# Altium footprint library MainPcblib.PcbLib: 316 footprints (part 13 of 20)
Each footprint in its own frame and in the unit in brackets; x right, y up, seen from the top. Pads: shape width x height; smd on the part's side, far side on the other; paste and mask are expansions set on the pad; w line width, h text height; cw(c..) or ccw(c..) is an arc to the next point about the centre after c.
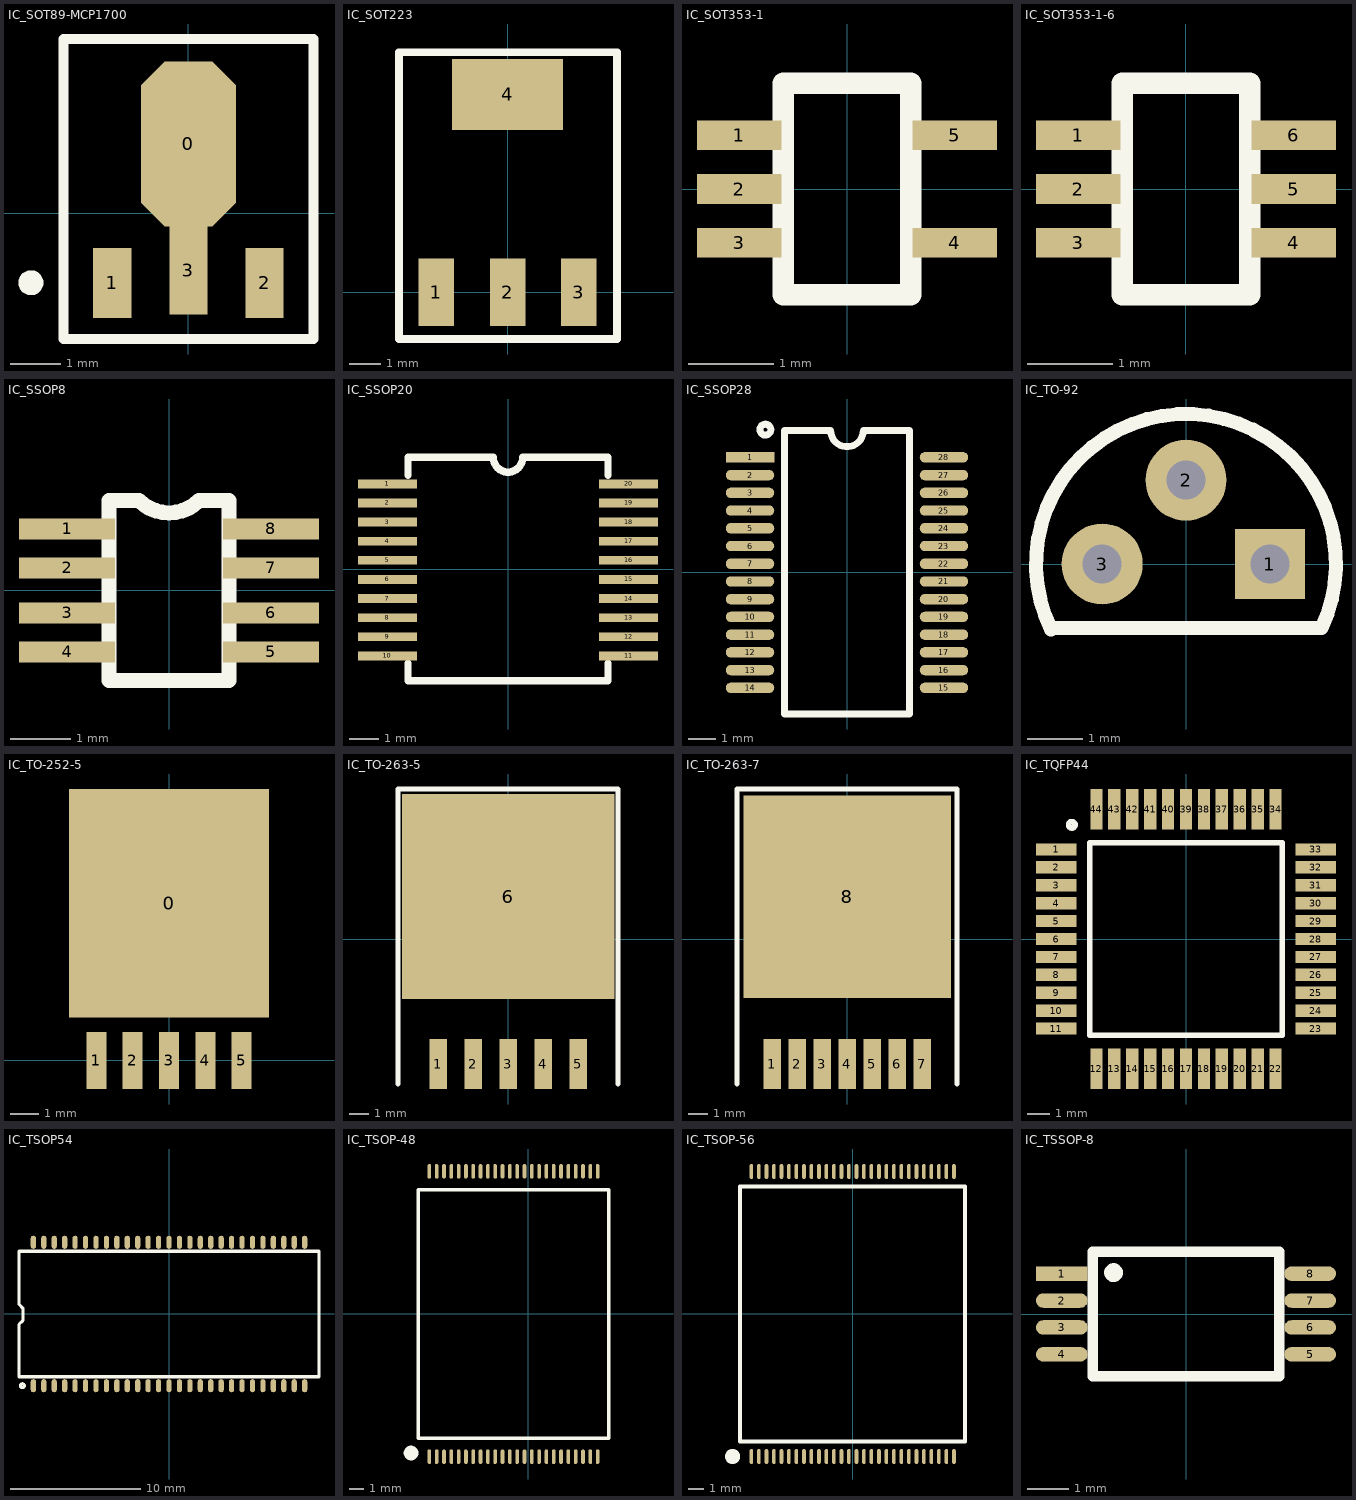
[diagram p12: the footprints below, top view; thin cyan lines are the x and y axes]

## IC_SOT89-MCP1700 [mil] "SOT-89 for MCP1700"
pads (4):
  oct 74.8x129.92 smd: 0(-0.03,54.38)
  rect 30x55 smd: 1(-60,-55) 2(60,-55)
  rect 30x70 smd: 3(0,-45)
Top Overlay:
  circle w9.84: c-124.05,-54.87 r4.92
  lines w7.87: -98.46,-99.17 -98.46,137.05 98.39,137.05 98.39,-99.17 -98.46,-99.17

## IC_SOT223 [mil] "SOT223 - IC package"
pads (4):
  rect 45x85 smd: 1(-90,0) 2(0,0) 3(90,0)
  rect 140x90 smd: 4(0,250)
Top Overlay:
  lines w9.84: -137.24,-59.05 138.35,-59.05 138.35,303.15 -137.24,303.15 -137.24,-59.05

## IC_SOT353-1 [mm] "5-pin, for 74LVC1G02"
height 0.762
pads (5):
  rect 1x0.35 smd: 1(-1.27,0.635) 2(-1.27,0) 3(-1.27,-0.635) 4(1.27,-0.635) 5(1.27,0.635)
Top Overlay:
  lines w0.254: -0.75,-1.25 0.75,-1.25 0.75,1.25 -0.75,1.25 -0.75,-1.25

## IC_SOT353-1-6 [mm] "6-pin, for 74LVC1G157"
height 0.762
pads (6):
  rect 1x0.35 smd: 1(-1.27,0.635) 2(-1.27,0) 3(-1.27,-0.635) 4(1.27,-0.635) 5(1.27,0) 6(1.27,0.635)
Top Overlay:
  lines w0.254: -0.75,-1.25 0.75,-1.25 0.75,1.25 -0.75,1.25 -0.75,-1.25

## IC_SSOP8 [mm] "SSOP8"
pads (8):
  rect 1.6x0.35 smd: 1(-1.7,1.025) 2(-1.7,0.375) 3(-1.7,-0.375) 4(-1.7,-1.025) 5(1.7,-1.025) 6(1.7,-0.375) 7(1.7,0.375) 8(1.7,1.025)
Top Overlay:
  lines w0.254: -1,-1.5 1,-1.5 1,1.5 0.5,1.5 cw(c0,2) -0.5,1.5 -1,1.5 -1,-1.5

## IC_SSOP20 [mm] "For WM8804"
height 2
pads (20):
  rect 2x0.3 smd: 1(-4.1,2.9) 2(-4.1,2.25) 3(-4.1,1.6) 4(-4.1,0.95) 5(-4.1,0.3) 6(-4.1,-0.35) 7(-4.1,-1) 8(-4.1,-1.65) 9(-4.1,-2.3) 10(-4.1,-2.95) 11(4.1,-2.95) 12(4.1,-2.3) 13(4.1,-1.65) 14(4.1,-1) 15(4.1,-0.35) 16(4.1,0.3) 17(4.1,0.95) 18(4.1,1.6) 19(4.1,2.25) 20(4.1,2.9)
Top Overlay:
  lines w0.254: -3.4,-3.2 -3.4,-3.8 3.4,-3.8 3.4,-3.2 ; -3.4,3.2 -3.4,3.8 -0.5,3.8 ccw(c0,3.8) 0.5,3.8 3.4,3.8 3.4,3.2

## IC_SSOP28 [mil]
pads (28):
  rect 70x15 smd: 1(-140,165.75)
  oval 70x15 smd: 2(-140,140.16) 3(-140,114.57) 4(-140,88.98) 5(-140,63.39) 6(-140,37.8) 7(-140,12.2) 8(-140,-13.39) 9(-140,-38.98) 10(-140,-64.57) 11(-140,-90.16) 12(-140,-115.75) 13(-140,-141.34) 14(-140,-166.93) 15(140,-166.93) 16(140,-141.34) 17(140,-115.75) 18(140,-90.16) 19(140,-64.57) 20(140,-38.98) 21(140,-13.39) 22(140,12.21) 23(140,37.8) 24(140,63.39) 25(140,88.98) 26(140,114.57) 27(140,140.16) 28(140,165.75)
Top Overlay:
  circle w10: c-117.87,205.75 r7.87
  lines w10: -90,-204.72 -90,204.72 -23.62,204.72 ccw(c0,204.72) 23.62,204.72 90,204.72 90,-204.72 -90,-204.72

## IC_TO-92 [mil] "For 78Lxx"
height 275.59
pads (3):
  rect 50x50 hole 27.99: 1(60,0)
  round 57.99 hole 27.99: 2(0,60)
  round 58 hole 28: 3(-60,0)
Top Overlay:
  lines w10: -96.64,-46.75 cw(c0,0) 97.02,-45.96 -95,-45.96

## IC_TO-252-5 [mm]
height 2.5
pads (6):
  rect 7x8 smd: 0(0,5.5)
  rect 0.7x2 smd: 1(-2.54,0) 2(-1.27,0) 3(0,0) 4(1.27,0) 5(2.54,0)
Top Overlay:
  lines w0.254: -3.3,2 3.3,2 3.3,9 -3.3,9 -3.3,2

## IC_TO-263-5 [mil] "SMD high-power, 5pin"
pads (6):
  rect 35x100 smd: 1(-140,-250) 2(-70,-250) 3(0,-250) 4(70,-250) 5(140,-250)
  rect 425x410 smd: 6(0,85)
Top Overlay:
  lines w10: -220,-290 -220,290 -220,300 220,300 220,290 220,-290

## IC_TO-263-7 [mil] "SMD high-power, 7pin"
pads (8):
  rect 35x100 smd: 1(-150,-250) 2(-100,-250) 3(-50,-250) 4(0,-250) 5(50,-250) 6(100,-250) 7(150,-250)
  rect 415x405 smd: 8(0,85)
Top Overlay:
  lines w10: -220,-290 -220,290 -220,300 220,300 220,290 220,-290

## IC_TQFP44 [mm] "TQFP44 - for PIC18F4xK22"
pads (44):
  rect 1.8x0.55 smd: 1(-5.8,4) 2(-5.8,3.2) 3(-5.8,2.4) 4(-5.8,1.6) 5(-5.8,0.8) 6(-5.8,0) 7(-5.8,-0.8) 8(-5.8,-1.6) 9(-5.8,-2.4) 10(-5.8,-3.2) 11(-5.8,-4) 23(5.8,-4) 24(5.8,-3.2) 25(5.8,-2.4) 26(5.8,-1.6) 27(5.8,-0.8) 28(5.8,0) 29(5.8,0.8) 30(5.8,1.6) 31(5.8,2.4) 32(5.8,3.2) 33(5.8,4)
  rect 0.55x1.8 smd: 12(-4,-5.8) 13(-3.2,-5.8) 14(-2.4,-5.8) 15(-1.6,-5.8) 16(-0.8,-5.8) 17(0,-5.8) 18(0.8,-5.8) 19(1.6,-5.8) 20(2.4,-5.8) 21(3.2,-5.8) 22(4,-5.8) 34(4,5.8) 35(3.2,5.8) 36(2.4,5.8) 37(1.6,5.8) 38(0.8,5.8) 39(0,5.8) 40(-0.8,5.8) 41(-1.6,5.8) 42(-2.4,5.8) 43(-3.2,5.8) 44(-4,5.8)
Top Overlay:
  circle w0.254: c-5.1,5.1 r0.141
  lines w0.254: -4.3,-4.3 -4.3,4.3 4.3,4.3 4.3,-4.3 -4.3,-4.3

## IC_TSOP54 [mm] "RAM :)"
pads (54):
  oval 0.4x1 smd: 1(-10.4,-5.5) 2(-9.6,-5.5) 3(-8.8,-5.5) 4(-8,-5.5) 5(-7.2,-5.5) 6(-6.4,-5.5) 7(-5.6,-5.5) 8(-4.8,-5.5) 9(-4,-5.5) 10(-3.2,-5.5) 11(-2.4,-5.5) 12(-1.6,-5.5) 13(-0.8,-5.5) 14(0,-5.5) 15(0.8,-5.5) 16(1.6,-5.5) 17(2.4,-5.5) 18(3.2,-5.5) 19(4,-5.5) 20(4.8,-5.5) 21(5.6,-5.5) 22(6.4,-5.5) 23(7.2,-5.5) 24(8,-5.5) 25(8.8,-5.5) 26(9.6,-5.5) 27(10.4,-5.5) 28(10.4,5.5) 29(9.6,5.5) 30(8.8,5.5) 31(8,5.5) 32(7.2,5.5) 33(6.4,5.5) 34(5.6,5.5) 35(4.8,5.5) 36(4,5.5) 37(3.2,5.5) 38(2.4,5.5) 39(1.6,5.5) 40(0.8,5.5) 41(0,5.5) 42(-0.8,5.5) 43(-1.6,5.5) 44(-2.4,5.5) 45(-3.2,5.5) 46(-4,5.5) 47(-4.8,5.5) 48(-5.6,5.5) 49(-6.4,5.5) 50(-7.2,5.5) 51(-8,5.5) 52(-8.8,5.5) 53(-9.6,5.5) 54(-10.4,5.5)
Top Overlay:
  circle w0.254: c-11.241,-5.5 r0.141
  lines w0.254: -11.5,-4.8 11.5,-4.8 11.5,4.8 -11.5,4.8 -11.5,0.9 -11.5,0.75 -11.2,0.45 -11.2,0.4 -11.2,-0.5 -11.5,-0.8 -11.5,-2.4 -11.5,-4.8

## IC_TSOP-48 [mm] "NAND flash"
pads (48):
  oval 0.25x1 smd: 1(-6.75,-9.75) 2(-6.25,-9.75) 3(-5.75,-9.75) 4(-5.25,-9.75) 5(-4.75,-9.75) 6(-4.25,-9.75) 7(-3.75,-9.75) 8(-3.25,-9.75) 9(-2.75,-9.75) 10(-2.25,-9.75) 11(-1.75,-9.75) 12(-1.25,-9.75) 13(-0.75,-9.75) 14(-0.25,-9.75) 15(0.25,-9.75) 16(0.75,-9.75) 17(1.25,-9.75) 18(1.75,-9.75) 19(2.25,-9.75) 20(2.75,-9.75) 21(3.25,-9.75) 22(3.75,-9.75) 23(4.25,-9.75) 24(4.75,-9.75) 25(4.75,9.75) 26(4.25,9.75) 27(3.75,9.75) 28(3.25,9.75) 29(2.75,9.75) 30(2.25,9.75) 31(1.75,9.75) 32(1.25,9.75) 33(0.75,9.75) 34(0.25,9.75) 35(-0.25,9.75) 36(-0.75,9.75) 37(-1.25,9.75) 38(-1.75,9.75) 39(-2.25,9.75) 40(-2.75,9.75) 41(-3.25,9.75) 42(-3.75,9.75) 43(-4.25,9.75) 44(-4.75,9.75) 45(-5.25,9.75) 46(-5.75,9.75) 47(-6.25,9.75) 48(-6.75,9.75)
Top Overlay:
  circle w0.5: c-8,-9.5 r0.25
  lines w0.254: -7.5,-8.5 5.5,-8.5 5.5,8.5 -7.5,8.5 -7.5,-8.5

## IC_TSOP-56 [mm] "NOR flash"
pads (56):
  oval 0.25x1 smd: 1(-6.75,-9.5) 2(-6.25,-9.5) 3(-5.75,-9.5) 4(-5.25,-9.5) 5(-4.75,-9.5) 6(-4.25,-9.5) 7(-3.75,-9.5) 8(-3.25,-9.5) 9(-2.75,-9.5) 10(-2.25,-9.5) 11(-1.75,-9.5) 12(-1.25,-9.5) 13(-0.75,-9.5) 14(-0.25,-9.5) 15(0.25,-9.5) 16(0.75,-9.5) 17(1.25,-9.5) 18(1.75,-9.5) 19(2.25,-9.5) 20(2.75,-9.5) 21(3.25,-9.5) 22(3.75,-9.5) 23(4.25,-9.5) 24(4.75,-9.5) 25(5.25,-9.5) 26(5.75,-9.5) 27(6.25,-9.5) 28(6.75,-9.5) 29(6.75,9.5) 30(6.25,9.5) 31(5.75,9.5) 32(5.25,9.5) 33(4.75,9.5) 34(4.25,9.5) 35(3.75,9.5) 36(3.25,9.5) 37(2.75,9.5) 38(2.25,9.5) 39(1.75,9.5) 40(1.25,9.5) 41(0.75,9.5) 42(0.25,9.5) 43(-0.25,9.5) 44(-0.75,9.5) 45(-1.25,9.5) 46(-1.75,9.5) 47(-2.25,9.5) 48(-2.75,9.5) 49(-3.25,9.5) 50(-3.75,9.5) 51(-4.25,9.5) 52(-4.75,9.5) 53(-5.25,9.5) 54(-5.75,9.5) 55(-6.25,9.5) 56(-6.75,9.5)
Top Overlay:
  circle w0.5: c-8,-9.5 r0.25
  lines w0.254: -7.5,-8.5 -7.5,8.5 7.5,8.5 7.5,-8.5 -7.5,-8.5

## IC_TSSOP-8 [mm]
height 1.2
pads (8):
  rect 1.25x0.35 smd: 1(-3,0.975)
  oval 1.25x0.35 smd: 2(-3,0.325) 3(-3,-0.325) 4(-3,-0.975) 5(3,-0.975) 6(3,-0.325) 7(3,0.325) 8(3,0.975)
Top Overlay:
  circle w0.254: c-1.75,1 r0.1
  lines w0.254: -2.25,-1.5 2.25,-1.5 2.25,1.5 -2.25,1.5 -2.25,-1.5